# Altium footprint library PCB - CHOKE - TDK ACM 2520-3P.PCBLIB: 1 footprints
Each footprint in its own frame and in the unit in brackets; x right, y up, seen from the top. Pads: shape width x height; smd on the part's side, far side on the other; paste and mask are expansions set on the pad; w line width, h text height; cw(c..) or ccw(c..) is an arc to the next point about the centre after c.
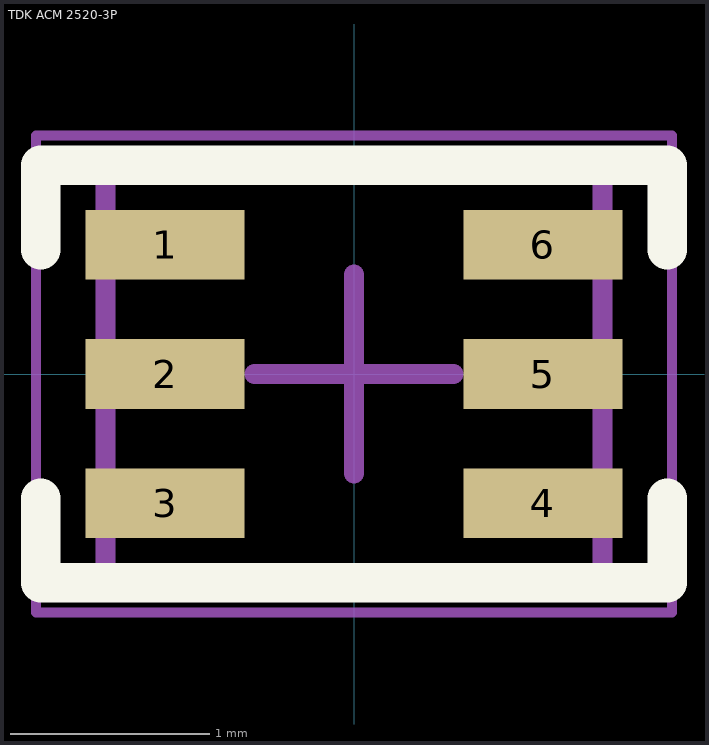
[diagram p0: the footprint, top view; thin cyan lines are the x and y axes]

## TDK ACM 2520-3P [mm] "Chip Choke, Body 2.5x2.1mm, IPC Medium Density"
height 1.2
pads (6):
  rect 0.8x0.35 smd: 1(-0.95,0.65) 2(-0.95,0) 3(-0.95,-0.65) 4(0.95,-0.65) 5(0.95,0) 6(0.95,0.65)
Top Overlay:
  lines w0.2: -1.575,-0.625 -1.575,-1.05 1.575,-1.05 1.575,-0.625 ; -1.575,0.625 -1.575,1.05 1.575,1.05 1.575,0.625
Mechanical 13:
  lines w0.1: -1.25,-1 -1.25,1 1.25,1 1.25,-1 -1.25,-1
Mechanical 15:
  lines w0.05: -1.6,-1.2 1.6,-1.2 1.6,1.2 -1.6,1.2 -1.6,-1.2
  lines w0.1: -0.5,0 0.5,0 ; 0,-0.5 0,0.5
3D body "TDK - ACM 2520.step": height 1.2, standoff 0, extent -1.25,-1 1.25,1